# Altium schematic symbol library pad.SchLib: 2 symbols
Pins are listed as number, name and electrical type; pins without a type are passive.

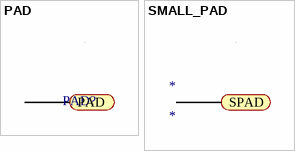
[diagram p0: symbols PAD to SMALL_PAD]

## PAD
designator PAD?  (value not drawn)
footprint pad
pins: 1 PAD

## SMALL_PAD
designator *
footprint SMALL_PAD
pins: 1 SPAD